# Altium schematic symbol library ABMM-25.000MHZ-B2-T.SchLib: 1 symbol
Pins are listed as number, name and electrical type; pins without a type are passive.

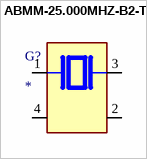
[diagram p0: symbol ABMM-25.000MHZ-B2-T]

## ABMM-25.000MHZ-B2-T
designator G?
MP: ABMM-25.000MHZ-B2-T; Price: None; Package: None; Value: *; Availability: Unavailable
footprint ABMM-25.000MHZ-B2-T
pins: 1, 2 CASE, 3, 4 CASE